# Altium schematic symbol library CON-6.Schlib: 1 symbol
Pins are listed as number, name and electrical type; pins without a type are passive.

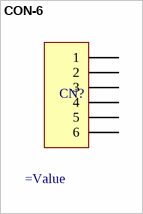
[diagram p0: symbol CON-6]

## CON-6
designator CN?
=Description
pins: 1, 2, 3, 4, 5, 6